# Altium schematic symbol library Power Module.SchLib: 5 symbols
Pins are listed as number, name and electrical type; pins without a type are passive.

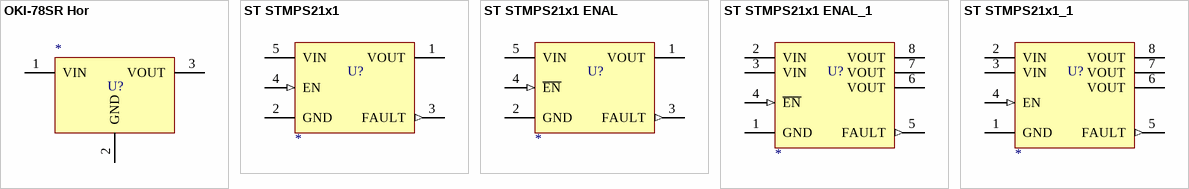
[diagram p0: symbols OKI-78SR Hor to ST STMPS21x1_1]

## OKI-78SR Hor
designator U?
DC-DC Power breakout; Part Number: *
pins: 1 VIN (power), 2 GND (power), 3 VOUT (power)

## ST STMPS21x1
designator U?
SOT-23-5L package; Part Number: *
pins: 1 VOUT (power), 2 GND (power), 3 FAULT (out), 4 EN (in), 5 VIN (power)

## ST STMPS21x1 ENAL
designator U?
SOT-23-5L package; Part Number: *
pins: 1 VOUT (power), 2 GND (power), 3 FAULT (out), 4 ~{EN} (in), 5 VIN (power)

## ST STMPS21x1 ENAL_1
designator U?
SO-8/MSOP-8 package; Part Number: *
pins: 1 GND (power), 2 VIN (power), 3 VIN (power), 4 ~{EN} (in), 5 FAULT (out), 6 VOUT (power), 7 VOUT (power), 8 VOUT (power)

## ST STMPS21x1_1
designator U?
SO-8/MSOP-8 package; Part Number: *
pins: 1 GND (power), 2 VIN (power), 3 VIN (power), 4 EN (in), 5 FAULT (out), 6 VOUT (power), 7 VOUT (power), 8 VOUT (power)